# Altium footprint library ADUM3160BRWZ.PcbLib: 3 footprints
Each footprint in its own frame and in the unit in brackets; x right, y up, seen from the top. Pads: shape width x height; smd on the part's side, far side on the other; paste and mask are expansions set on the pad; w line width, h text height; cw(c..) or ccw(c..) is an arc to the next point about the centre after c.
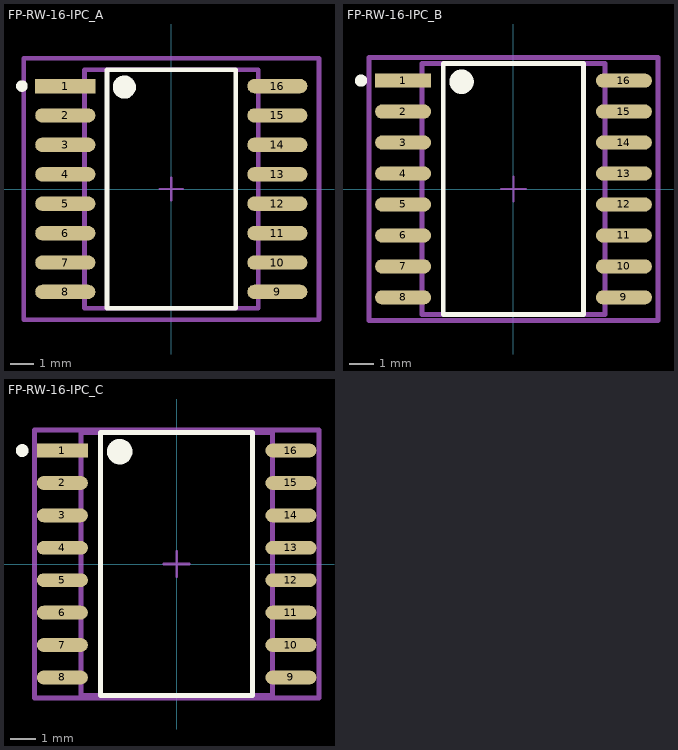
[diagram p0: the footprints below, top view; thin cyan lines are the x and y axes]

## FP-RW-16-IPC_A [mil]
pads (16):
  rect 102.28x24.49 smd paste+0 mask+0: 1(-180.24,175)
  rrect100% 102.28x24.49 smd paste+0 mask+0: 2(-180.24,125) 3(-180.24,75) 4(-180.24,25) 5(-180.24,-25) 6(-180.24,-75) 7(-180.24,-125) 8(-180.24,-175) 9(180.24,-175) 10(180.24,-125) 11(180.24,-75) 12(180.24,-25) 13(180.24,25) 14(180.24,75) 15(180.24,125) 16(180.24,175)
Top Overlay:
  circle w19.68: c-79.89,173.23 r9.84
  circle w9.84: c-254.01,175 r4.92
  lines w7.87: -109.41,-202.76 109.41,-202.76 109.41,202.76 -109.41,202.76 -109.41,-202.76
Top Assembly:
  lines w7.87: -251.06,-222.44 251.06,-222.44 251.06,222.44 -251.06,222.44 -251.06,-222.44
  text ".Designator" at 0,7.38 h39.37
Top 3D Body:
  lines w7.87: -147.64,-202.76 147.64,-202.76 147.64,202.76 -147.64,202.76 -147.64,-202.76
Top Courtyard:
  lines w7.87: -251.06,-222.44 251.06,-222.44 251.06,222.44 -251.06,222.44 -251.06,-222.44
Top Component Center:
  lines w3.94: -19.68,0 19.68,0 ; 0,-19.68 0,19.68
3D body "IC_Analog_Devices_ADM2486BRWZ_eec.STEP": height 10, standoff 0, extent -251.06,-222.44 251.06,222.44

## FP-RW-16-IPC_B [mil]
pads (16):
  rect 90.47x22.92 smd paste+0 mask+0: 1(-178.27,175)
  rrect100% 90.47x22.92 smd paste+0 mask+0: 2(-178.27,125) 3(-178.27,75) 4(-178.27,25) 5(-178.27,-25) 6(-178.27,-75) 7(-178.27,-125) 8(-178.27,-175) 9(178.27,-175) 10(178.27,-125) 11(178.27,-75) 12(178.27,-25) 13(178.27,25) 14(178.27,75) 15(178.27,125) 16(178.27,175)
Top Overlay:
  circle w19.68: c-83.82,173.23 r9.84
  circle w9.84: c-246.14,175 r4.92
  lines w7.87: -113.35,-202.76 113.35,-202.76 113.35,202.76 -113.35,202.76 -113.35,-202.76
Top Assembly:
  lines w7.87: -233.34,-212.6 233.34,-212.6 233.34,212.6 -233.34,212.6 -233.34,-212.6
  text ".Designator" at 0,7.38 h39.37
Top 3D Body:
  lines w7.87: -147.64,-202.76 147.64,-202.76 147.64,202.76 -147.64,202.76 -147.64,-202.76
Top Courtyard:
  lines w7.87: -233.34,-212.6 233.34,-212.6 233.34,212.6 -233.34,212.6 -233.34,-212.6
Top Component Center:
  lines w3.94: -19.68,0 19.68,0 ; 0,-19.68 0,19.68
3D body "IC_Analog_Devices_ADM2486BRWZ_eec.STEP": height 10, standoff 0, extent -233.34,-212.6 233.34,212.6

## FP-RW-16-IPC_C [mil]
pads (16):
  rect 78.65x21.34 smd paste+0 mask+0: 1(-176.3,175)
  rrect100% 78.65x21.34 smd paste+0 mask+0: 2(-176.3,125) 3(-176.3,75) 4(-176.3,25) 5(-176.3,-25) 6(-176.3,-75) 7(-176.3,-125) 8(-176.3,-175) 9(176.3,-175) 10(176.3,-125) 11(176.3,-75) 12(176.3,-25) 13(176.3,25) 14(176.3,75) 15(176.3,125) 16(176.3,175)
Top Overlay:
  circle w19.68: c-87.76,173.23 r9.84
  circle w9.84: c-238.26,175 r4.92
  lines w7.87: -117.29,-202.76 117.29,-202.76 117.29,202.76 -117.29,202.76 -117.29,-202.76
Top Assembly:
  lines w7.87: -219.56,-206.69 219.56,-206.69 219.56,206.69 -219.56,206.69 -219.56,-206.69
  text ".Designator" at 0,7.38 h39.37
Top 3D Body:
  lines w7.87: -147.64,-202.76 147.64,-202.76 147.64,202.76 -147.64,202.76 -147.64,-202.76
Top Courtyard:
  lines w7.87: -219.56,-206.69 219.56,-206.69 219.56,206.69 -219.56,206.69 -219.56,-206.69
Top Component Center:
  lines w3.94: -19.68,0 19.68,0 ; 0,-19.68 0,19.68
3D body "IC_Analog_Devices_ADM2486BRWZ_eec.STEP": height 10, standoff 0, extent -219.56,-206.69 219.56,206.69